# Altium footprint library 5052702412.PcbLib: 1 footprints
Each footprint in its own frame and in the unit in brackets; x right, y up, seen from the top. Pads: shape width x height; smd on the part's side, far side on the other; paste and mask are expansions set on the pad; w line width, h text height; cw(c..) or ccw(c..) is an arc to the next point about the centre after c.
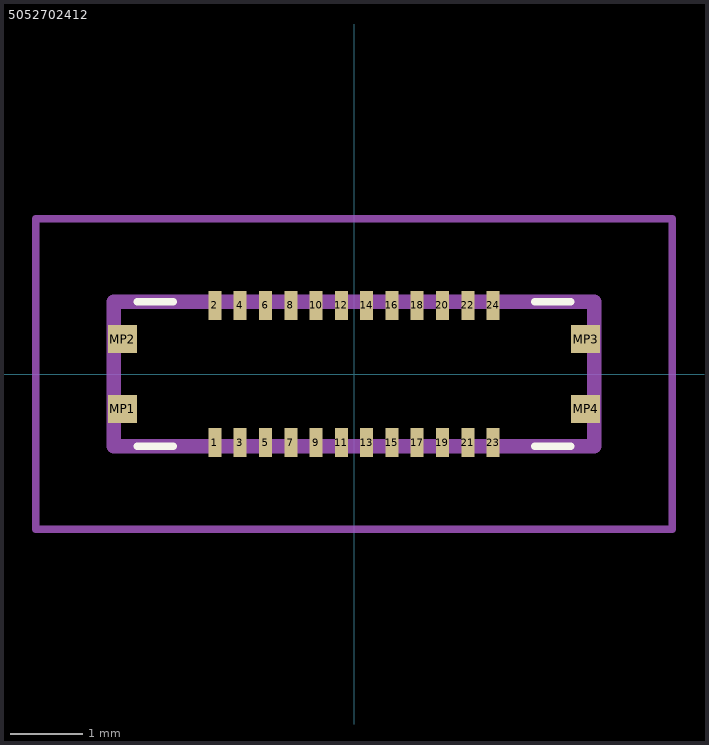
[diagram p0: the footprint, top view; thin cyan lines are the x and y axes]

## 5052702412 [mm]
pads (28):
  rect 0.18x0.4 smd: 1(-1.925,-0.95) 2(-1.925,0.95) 3(-1.575,-0.95) 4(-1.575,0.95) 5(-1.225,-0.95) 6(-1.225,0.95) 7(-0.875,-0.95) 8(-0.875,0.95) 9(-0.525,-0.95) 10(-0.525,0.95) 11(-0.175,-0.95) 12(-0.175,0.95) 13(0.175,-0.95) 14(0.175,0.95) 15(0.525,-0.95) 16(0.525,0.95) 17(0.875,-0.95) 18(0.875,0.95) 19(1.225,-0.95) 20(1.225,0.95) 21(1.575,-0.95) 22(1.575,0.95) 23(1.925,-0.95) 24(1.925,0.95)
  rect 0.4x0.385 smd: MP1(-3.205,-0.483) MP2(-3.205,0.483) MP3(3.205,0.483) MP4(3.205,-0.483)
Top Overlay:
  lines w0.1: -3,-1 -2.5,-1 ; -3,1 -2.5,1 ; 2.5,-1 3,-1 ; 2.5,1 3,1
Mechanical 15:
  lines w0.2: -3.325,-1 3.325,-1 3.325,1 -3.325,1 -3.325,-1
Mechanical 20:
  lines w0.1: -4.405,-2.15 4.405,-2.15 4.405,2.15 -4.405,2.15 -4.405,-2.15